# EAGLE library part WE-RJ45_7498210002 (library WE-RJ45_LAN)
WE-RJ45 LAN Transformer Characteristics RJ45 Connector with integrated transformer / common mode choke Power over Ethernet up to 50 Watt and speeds up to 10 Gbit/s Available in SMD, THT and THT with USB Compliant with standards: IEEE 802.3u, IEEE 802.3ab, IEEE 802.3af, IEEE 802.3at, IEEE 802.3an and upcoming IEE 802.3bt Applications Suitable for industrial temperatures from –40 °C up to +85 °C Compatible to Industrial Ethernet systems like EtherCAT or Profinet Compliant with most IC’s for Ethernet applications such as Microchip, Texas Instruments, Broadcom, Linear Technology Hubs, Routers, Switches, IP cameras, IoT applications <https://www.we-online.com/components/media/o35731v209%20Family-WE-RJ45LAN-7499xxxxxx.jpg> Details see: www.we-online.com/components/products/WE-LAN-RJ45 <www.we-online.com/catalog/WE-LAN-RJ45/?utm_source=eagle_model&utm_medium=description_link&utm_campaign=eisos_eagle> Updated by Ella Wu 2019-08-05 2019 (C) Wurth Elektronik
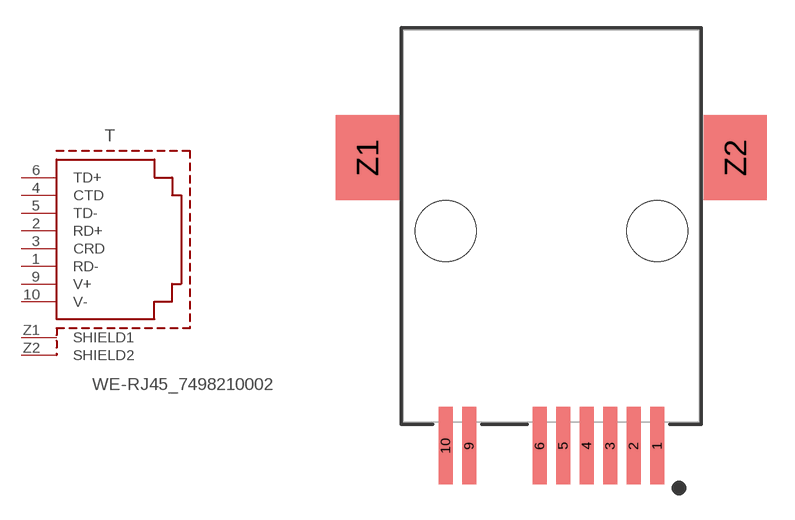
[diagram p73: symbol with the pads of 7498210002; footprint 7498210002]

Designator prefix T

## WE-RJ45_7498210002 (DATA-RATE: 10/100BASE-T; DATASHEET-URL: https://www.we-online.com/redexpert/spec/7498210002?ae; IMPROVED-CMRR: No; LED: -; MOUNT: SMT; OPERATING-TEMPERATURE: -40 °C up to +85 °C; PART-NUMBER: 7498210002; PHY-CHIP-MODE: current & voltage; POE: PoE+; PORTS: 1; SHIELD-TABS: No; TAB: Down; USB: No; VALUE: 7498210002)  [7498210002]
1  RD-  pas
2  RD+  pas
3  CRD  pas
4  CTD  pas
5  TD-  pas
6  TD+  pas
9  V+  pas
10  V-  pas
Z1  SHIELD1  pas
Z2  SHIELD2  pas

## Footprint 7498210002 (pad centres in mm)
WE-RJ45 LAN Transformer 10/100 Base-T
smd 0.76 x 4.18: 1 5.715,-11.61; 2 4.445,-11.61; 3 3.175,-11.61; 4 1.905,-11.61; 5 0.635,-11.61; 6 -0.635,-11.61; 9 -4.445,-11.61; 10 -5.715,-11.61
smd 3.42 x 4.58: Z1 -9.94,3.97; Z2 9.94,3.97
hole 3.3 at 5.715,0
hole 3.3 at -5.715,0